# EAGLE library part AP64501SP-13 (library AP64501SP-13)
Conv DC-DC 3.8V to 40V Synchronous Step Down Single-Out 0.8V to 39V 5A 8-Pin SO EP T/R Source: Datasheet <https://www.arrow.com/en/products/ap64501sp-13/diodes-incorporated>
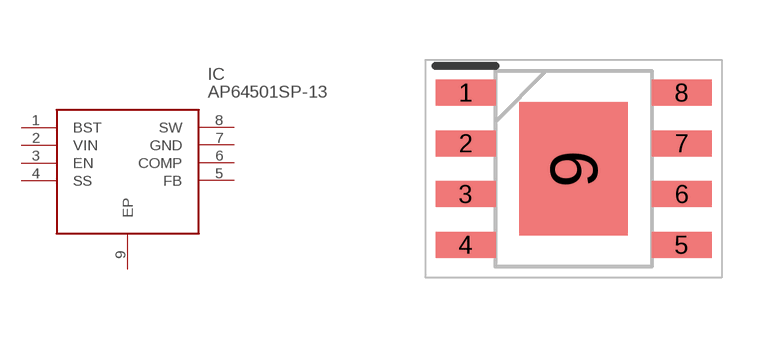
[diagram p0: symbol with the pads of SOIC127P600X163-9N; footprint SOIC127P600X163-9N]

Designator prefix IC

## AP64501SP-13 (Arrow_Part_Number: AP64501SP-13; Arrow_Price-Stock: https://www.arrow.com/en/products/ap64501sp-13/diodes-incorporated?region=nac; Description: Conv DC-DC 3.8V to 40V Synchronous Step Down Single-Out 0.8V to 39V 5A 8-Pin SO EP T/R; Height: 1.63mm; Manufacturer_Name: Diodes Inc.; Manufacturer_Part_Number: AP64501SP-13; Mouser_Part_Number: 621-AP64501SP-13; Mouser_Price-Stock: https://www.mouser.co.uk/ProductDetail/Diodes-Incorporated/AP64501SP-13?qs=P1JMDcb91o7FS0GU%252BW7TIQ%3D%3D)  [SOIC127P600X163-9N]
1  BST
2  VIN
3  EN
4  SS
5  FB
6  COMP
7  GND
8  SW
9  EP

## Footprint SOIC127P600X163-9N (pad centres in mm)
SO-8EP
smd 1.5 x 0.65: 1 -2.7,1.905; 2 -2.7,0.635; 3 -2.7,-0.635; 4 -2.7,-1.905; 5 2.7,-1.905; 6 2.7,-0.635; 7 2.7,0.635; 8 2.7,1.905
smd 2.71 x 3.35: 9 0,0